# Altium footprint library CON-Nano-D.PcbLib: 5 footprints
Each footprint in its own frame and in the unit in brackets; x right, y up, seen from the top. Pads: shape width x height; smd on the part's side, far side on the other; paste and mask are expansions set on the pad; w line width, h text height; cw(c..) or ccw(c..) is an arc to the next point about the centre after c.
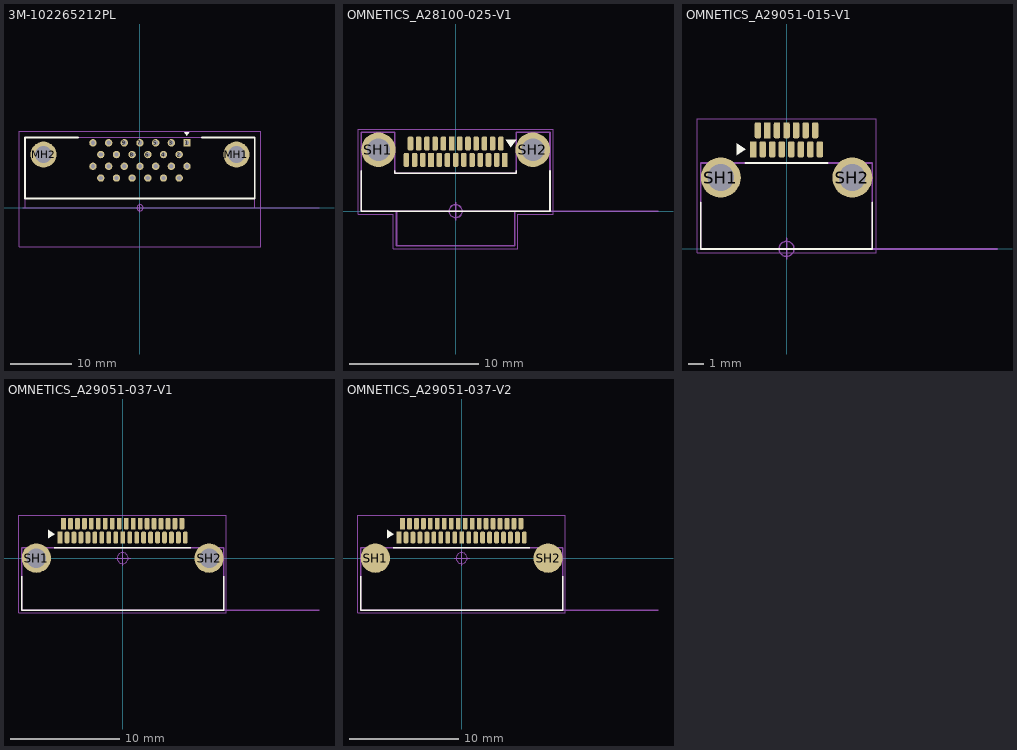
[diagram p0: the footprints below, top view; thin cyan lines are the x and y axes]

## 3M-102265212PL [mm]
height 9.4
pads (28):
  rect 1.2x1.2 hole 0.7: 1(7.62,10.53)
  round 1.2 hole 0.7: 2(6.35,8.63) 3(5.08,10.53) 4(3.81,8.63) 5(2.54,10.53) 6(1.27,8.63) 7(0,10.53) 8(-1.27,8.63) 9(-2.54,10.53) 10(-3.81,8.63) 11(-5.08,10.53) 12(-6.35,8.63) 13(-7.62,10.53) 14(7.62,6.73) 15(6.35,4.83) 16(5.08,6.73) 17(3.81,4.83) 18(2.54,6.73) 19(1.27,4.83) 20(0,6.73) 21(-1.27,4.83) 22(-2.54,6.73) 23(-3.81,4.83) 24(-5.08,6.73) 25(-6.35,4.83) 26(-7.62,6.73)
  round 4.2 hole 2.8: MH1(15.63,8.63) MH2(-15.63,8.63)
Top Overlay:
  region: 7.995,12.255 7.195,12.255 7.595,11.655
  lines w0.3: -10,11.4 -18.6,11.4 -18.6,1.5 18.6,1.5 18.6,11.4 10,11.4
Top Assembly:
  lines w0.1: -18.6,0 -18.6,11.4 18.6,11.4 18.6,0 -18.6,0
Bottom Assembly:
  lines w0.13: -19,0 29,0
  text "PCB Edge" at 21,1 h1
Top Designator:
  text ".Designator" at -3.81,2.5 h1
Top Component Outline:
  lines w0.1: -19.6,-6.3 19.6,-6.3 19.6,12.4 -19.6,12.4 -19.6,-6.3
Top Component Center:
  circle w0.1: c0,0 r0.5
  lines w0.1: -0.686,0 0.711,0 ; -0.001,-0.706 -0.001,0.691
3D body "10226-5212PL.stp": height 10.13, standoff -3.17, extent -18.6,-5.29 18.6,11.41

## OMNETICS_A28100-025-V1 [mil]
height 140.16
pads (27):
  rect 17x42 smd: 1(150,156) 10(-75,156) 20(-12.5,206)
  rrect50% 17x42 smd: 2(125,156) 3(100,156) 4(75,156) 5(50,156) 6(25,156) 7(0,156) 8(-25,156) 9(-50,156) 11(-100,156) 12(-125,156) 13(-150,156) 14(137.5,206) 15(112.5,206) 16(87.5,206) 17(62.5,206) 18(37.5,206) 19(12.5,206) 21(-37.5,206) 22(-62.5,206) 23(-87.5,206) 24(-112.5,206) 25(-137.5,206)
  round 105 hole 70: SH1(-235,187) SH2(235,187)
Top Overlay:
  region: 184.05,217.51 152.56,217.51 168.31,193.89
  lines w5: -287.5,122.16 -287.5,0 -180,0 180,0 287.5,0 287.5,122.16 ; -185,122.16 -185,115 185,115 185,122.16
Top Assembly:
  lines w5: -287.5,0 -287.5,240 -185,240 -185,115 185,115 185,240 287.5,240 287.5,0 180,0 180,-105 -180,-105 -180,0 -287.5,0
Bottom Assembly:
  lines w5.12: -287.5,0 616.14,0
  text "PCB Edge" at 307.09,8.86 h39.37
Top Designator:
  text ".Designator" at -141.73,52.17 h39.37
Top Component Outline:
  lines w1.97: -297.34,-9.84 -297.34,249.84 297.34,249.84 297.34,-9.84 189.84,-9.84 189.84,-114.84 -189.84,-114.84 -189.84,-9.84 -297.34,-9.84
Top Component Center:
  circle w3.94: c0,0 r19.68
  lines w3.94: -27,0 28,0 ; -0.03,-27.8 -0.03,27.2
3D body "a28100-025.stp": height 140.58, standoff 0.08, extent -287.5,-105 287.5,240

## OMNETICS_A29051-015-V1 [mil]
height 140.16
pads (17):
  rect 17x42 smd: 1(-87.5,261) 10(-50,311)
  rrect50% 17x42 smd: 2(-62.5,261) 3(-37.5,261) 4(-12.5,261) 5(12.5,261) 6(37.5,261) 7(62.5,261) 8(87.5,261) 9(-75,311) 11(-25,311) 12(0,311) 13(25,311) 14(50,311) 15(75,311)
  round 105 hole 70: SH1(-172.5,187) SH2(172.5,187)
Top Overlay:
  region: -130.91,277.55 -130.91,246.05 -107.28,261.8
  lines w5: -225,121.9 -225,0 225,0 225,121.9 ; -107.4,225 107.4,225
Top Assembly:
  lines w5: -225,0 225,0 225,225 -225,225 -225,0
Bottom Assembly:
  lines w5.12: -225,0 552.17,0
  text "PCB Edge" at 245.08,8.86 h39.37
Top Designator:
  text ".Designator" at -138.78,54.13 h39.37
Top Component Outline:
  lines w1.97: -234.84,-9.84 234.84,-9.84 234.84,341.84 -234.84,341.84 -234.84,-9.84
Top Component Center:
  circle w3.94: c0,0 r19.68
  lines w3.94: -27,0 28,0 ; -0.03,-27.8 -0.03,27.2
3D body "step_temp.STEP": height 140.83, standoff -0.02, extent -225,0 225,324

## OMNETICS_A29051-037-V1 [mil]
height 140.16
pads (39):
  rect 17x42 smd: 1(-225,74) 10(0,74) 20(-212.5,124) 30(37.5,124)
  rrect50% 17x42 smd: 2(-200,74) 3(-175,74) 4(-150,74) 5(-125,74) 6(-100,74) 7(-75,74) 8(-50,74) 9(-25,74) 11(25,74) 12(50,74) 13(75,74) 14(100,74) 15(125,74) 16(150,74) 17(175,74) 18(200,74) 19(225,74) 21(-187.5,124) 22(-162.5,124) 23(-137.5,124) 24(-112.5,124) 25(-87.5,124) 26(-62.5,124) 27(-37.5,124) 28(-12.5,124) 29(12.5,124) 31(62.5,124) 32(87.5,124) 33(112.5,124) 34(137.5,124) 35(162.5,124) 36(187.5,124) 37(212.5,124)
  round 105 hole 70: SH1(-310,0) SH2(310,0)
Top Overlay:
  region: -267.72,102.36 -267.72,70.87 -244.09,86.61
  lines w5: -362.5,-65.1 -362.5,-187 362.5,-187 362.5,-65.1 ; -244.9,38 244.9,38
Top Assembly:
  lines w5: -362.5,-187 362.5,-187 362.5,38 -362.5,38 -362.5,-187
Bottom Assembly:
  lines w5.12: -362.5,-187 704.72,-187
  text "PCB Edge" at 393.7,-177.17 h39.37
Top Designator:
  text ".Designator" at -153.54,-90.55 h39.37
Top Component Outline:
  lines w1.97: -372.34,-196.84 372.34,-196.84 372.34,154.84 -372.34,154.84 -372.34,-196.84
Top Component Center:
  circle w3.94: c0,0 r19.68
  lines w3.94: -27,0 28,0 ; -0.03,-27.8 -0.03,27.2
3D body "step_temp.STEP": height 140.83, standoff 0.03, extent -362.5,-189 362.5,135

## OMNETICS_A29051-037-V2 [mil]
height 140.16
pads (39):
  rect 17x42 smd: 1(-225,74) 10(0,74) 20(-212.5,124) 30(37.5,124)
  rrect50% 17x42 smd: 2(-200,74) 3(-175,74) 4(-150,74) 5(-125,74) 6(-100,74) 7(-75,74) 8(-50,74) 9(-25,74) 11(25,74) 12(50,74) 13(75,74) 14(100,74) 15(125,74) 16(150,74) 17(175,74) 18(200,74) 19(225,74) 21(-187.5,124) 22(-162.5,124) 23(-137.5,124) 24(-112.5,124) 25(-87.5,124) 26(-62.5,124) 27(-37.5,124) 28(-12.5,124) 29(12.5,124) 31(62.5,124) 32(87.5,124) 33(112.5,124) 34(137.5,124) 35(162.5,124) 36(187.5,124) 37(212.5,124)
  round 105 smd: SH1(-310,0) SH2(310,0)
Top Overlay:
  region: -267.72,102.36 -267.72,70.87 -244.09,86.61
  lines w5: -362.5,-65.1 -362.5,-187 362.5,-187 362.5,-65.1 ; -244.9,38 244.9,38
Top Assembly:
  lines w5: -362.5,-187 362.5,-187 362.5,38 -362.5,38 -362.5,-187
Bottom Assembly:
  lines w5.12: -362.5,-187 704.72,-187
  text "PCB Edge" at 393.7,-177.17 h39.37
Top Designator:
  text ".Designator" at -153.54,-90.55 h39.37
Top Component Outline:
  lines w1.97: -372.34,-196.84 372.34,-196.84 372.34,154.84 -372.34,154.84 -372.34,-196.84
Top Component Center:
  circle w3.94: c0,0 r19.68
  lines w3.94: -27,0 28,0 ; -0.03,-27.8 -0.03,27.2
3D body "step_temp.STEP": height 140.83, standoff 0.03, extent -362.5,-189 362.5,135